# EAGLE library part BQ51013A (library my_library)
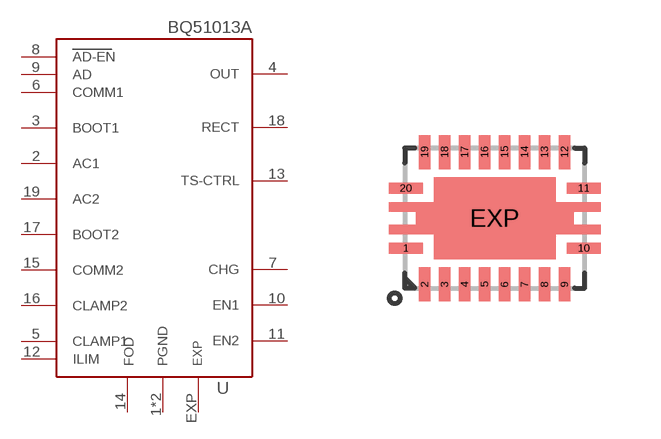
[diagram p4: symbol with the pads of QFN20-3.5X4.5; footprint QFN20-3.5X4.5]

Designator prefix U

## BQ51013A  [QFN20-3.5X4.5]
1  PGND
2  AC1
3  BOOT1
4  OUT
5  CLAMP1
6  COMM1
7  CHG
8  AD-EN
9  AD
10  EN1
11  EN2
12  ILIM
13  TS-CTRL
14  FOD
15  COMM2
16  CLAMP2
17  BOOT2
18  RECT
19  AC2
20  PGND
EXP  EXP

## Footprint QFN20-3.5X4.5 (pad centres in mm)
smd 0.85 x 0.28: 1 -2.225,-0.75; 10 2.225,-0.75; 11 2.225,0.75; 20 -2.225,0.75
smd 0.28 x 0.85: 2 -1.75,-1.655; 3 -1.25,-1.655; 4 -0.75,-1.655; 5 -0.25,-1.655; 6 0.25,-1.655; 7 0.75,-1.655; 8 1.25,-1.655; 9 1.75,-1.655; 12 1.75,1.655; 13 1.25,1.655; 14 0.75,1.655; 15 0.25,1.655; 16 -0.25,1.655; 17 -0.75,1.655; 18 -1.25,1.655; 19 -1.75,1.655
smd 1.27 x 0.635: EXP 0,0